# Altium footprint library Common.PcbLib: 7 footprints
Each footprint in its own frame and in the unit in brackets; x right, y up, seen from the top. Pads: shape width x height; smd on the part's side, far side on the other; paste and mask are expansions set on the pad; w line width, h text height; cw(c..) or ccw(c..) is an arc to the next point about the centre after c.
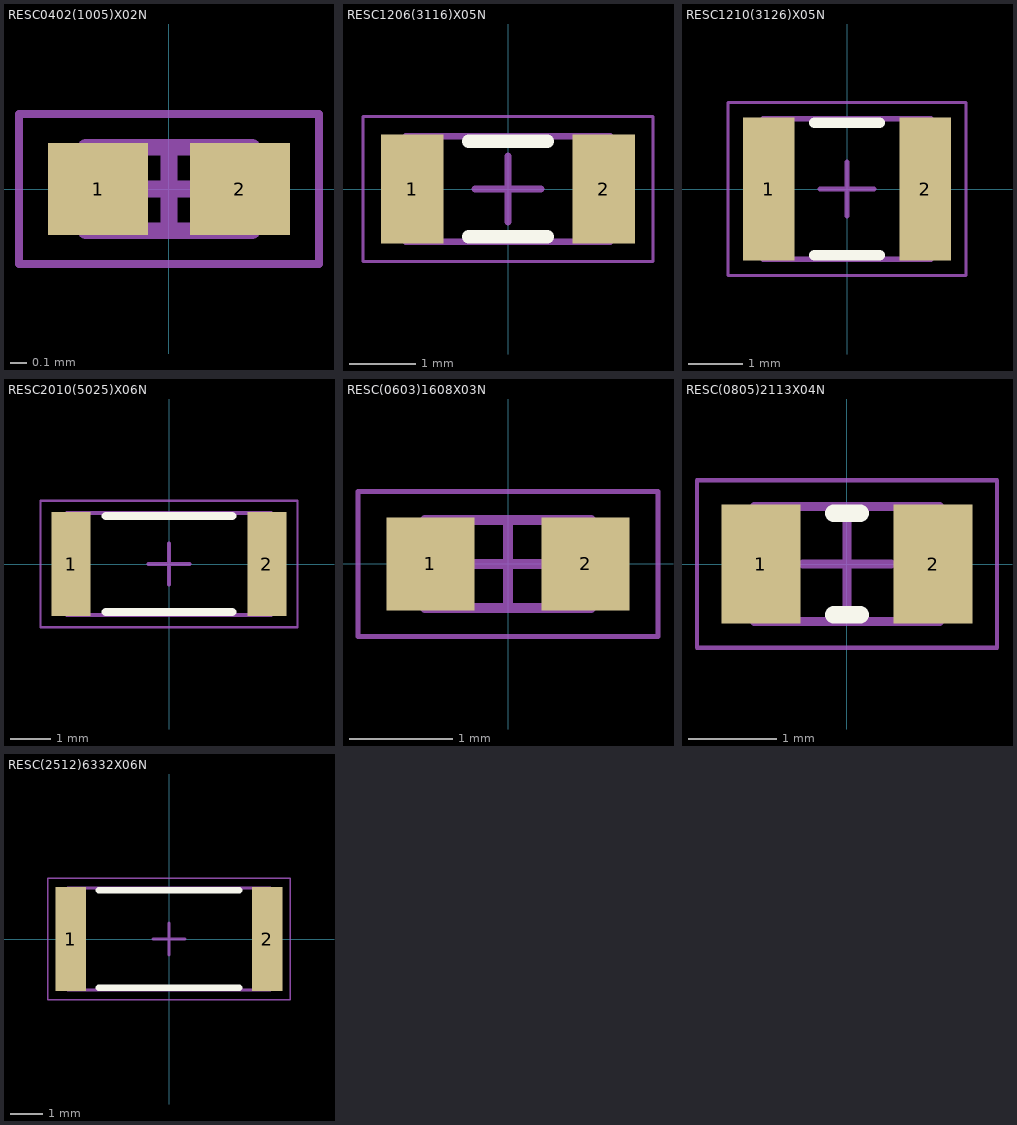
[diagram p0: the footprints below, top view; thin cyan lines are the x and y axes]

## RESC0402(1005)X02N [mm] "Chip Resistor, 2-Leads, Body 1,00x0,50mm, IPC Medium Density"
height 0.2
pads (2):
  rect 0.6x0.55 smd: 1(-0.425,0) 2(0.425,0)
Mechanical 13:
  lines w0.1: -0.5,-0.25 0.5,-0.25 0.5,0.25 -0.5,0.25 -0.5,-0.25
Mechanical 15:
  lines w0.05: -0.9,-0.45 0.9,-0.45 0.9,0.45 -0.9,0.45 -0.9,-0.45
  lines w0.1: -0.25,0 0.25,0 ; 0,-0.25 0,0.25
3D body: height 0.2, standoff 0, extent 0.15,-0.25 0.5,0.25
3D body: height 0.2, standoff 0, extent -0.5,-0.25 -0.15,0.25
3D body: height 0.2, standoff 0, extent -0.15,-0.25 0.15,0.25

## RESC1206(3116)X05N [mm] "Chip Resistor, 2-Leads, Body 3,10x1,60mm, IPC Medium Density"
height 0.5
pads (2):
  rect 0.95x1.65 smd: 1(-1.45,0) 2(1.45,0)
Top Overlay:
  lines w0.2: -0.6,-0.725 0.6,-0.725 ; -0.6,0.725 0.6,0.725
Mechanical 13:
  lines w0.1: -1.55,-0.8 1.55,-0.8 1.55,0.8 -1.55,0.8 -1.55,-0.8
Mechanical 15:
  lines w0.05: -2.2,-1.1 2.2,-1.1 2.2,1.1 -2.2,1.1 -2.2,-1.1
  lines w0.1: -0.5,0 0.5,0 ; 0,-0.5 0,0.5
3D body: height 0.5, standoff 0, extent 1,-0.8 1.55,0.8
3D body: height 0.5, standoff 0, extent -1.55,-0.8 -1,0.8
3D body: height 0.5, standoff 0, extent -1,-0.8 1,0.8

## RESC1210(3126)X05N [mm] "Chip Resistor, 2-Leads, Body 3,10x2,60mm, IPC Medium Density"
height 0.5
pads (2):
  rect 0.95x2.65 smd: 1(-1.45,0) 2(1.45,0)
Top Overlay:
  lines w0.2: -0.6,-1.225 0.6,-1.225 ; -0.6,1.225 0.6,1.225
Mechanical 13:
  lines w0.1: -1.55,-1.3 -1.55,1.3 1.55,1.3 1.55,-1.3 -1.55,-1.3
Mechanical 15:
  lines w0.05: -2.2,-1.6 -2.2,1.6 2.2,1.6 2.2,-1.6 -2.2,-1.6
  lines w0.1: -0.5,0 0.5,0 ; 0,-0.5 0,0.5
3D body: height 0.5, standoff 0, extent -1,-1.3 1,1.3
3D body: height 0.5, standoff 0, extent -1.55,-1.3 -1,1.3
3D body: height 0.5, standoff 0, extent 1,-1.3 1.55,1.3

## RESC2010(5025)X06N [mm] "Chip Resistor, 2-Leads, Body 5,00x2,50mm, IPC Medium Density"
height 0.6
pads (2):
  rect 0.95x2.55 smd: 1(-2.4,0) 2(2.4,0)
Top Overlay:
  lines w0.2: -1.55,-1.175 1.55,-1.175 ; -1.55,1.175 1.55,1.175
Mechanical 13:
  lines w0.1: -2.5,-1.25 2.5,-1.25 2.5,1.25 -2.5,1.25 -2.5,-1.25
Mechanical 15:
  lines w0.05: -3.15,-1.55 3.15,-1.55 3.15,1.55 -3.15,1.55 -3.15,-1.55
  lines w0.1: -0.5,0 0.5,0 ; 0,-0.5 0,0.5
3D body: height 0.6, standoff 0, extent 1.95,-1.25 2.5,1.25
3D body: height 0.6, standoff 0, extent -2.5,-1.25 -1.95,1.25
3D body: height 0.6, standoff 0, extent -1.95,-1.25 1.95,1.25

## RESC(0603)1608X03N [mm] "Chip Resistor, 2-Leads, Body 1,60x0,85mm, IPC Medium Density"
height 0.3
pads (2):
  rect 0.85x0.9 smd: 1(-0.75,0) 2(0.75,0)
Mechanical 13:
  lines w0.1: -0.8,-0.425 0.8,-0.425 0.8,0.425 -0.8,0.425 -0.8,-0.425
Mechanical 15:
  lines w0.05: -1.45,-0.7 1.45,-0.7 1.45,0.7 -1.45,0.7 -1.45,-0.7
  lines w0.1: -0.425,0 0.425,0 ; 0,-0.425 0,0.425
3D body: height 0.3, standoff 0, extent 0.35,-0.425 0.8,0.425
3D body: height 0.3, standoff 0, extent -0.8,-0.425 -0.35,0.425
3D body: height 0.3, standoff 0, extent -0.35,-0.425 0.35,0.425

## RESC(0805)2113X04N [mm] "Chip Resistor, 2-Leads, Body 2,10x1,30mm, IPC Medium Density"
height 0.4
pads (2):
  rect 0.9x1.35 smd: 1(-0.975,0) 2(0.975,0)
Top Overlay:
  lines w0.2: -0.15,-0.575 0.15,-0.575 ; -0.15,0.575 0.15,0.575
Mechanical 13:
  lines w0.1: -1.05,-0.65 -1.05,0.65 1.05,0.65 1.05,-0.65 -1.05,-0.65
Mechanical 15:
  lines w0.05: -1.7,-0.95 -1.7,0.95 1.7,0.95 1.7,-0.95 -1.7,-0.95
  lines w0.1: -0.5,0 0.5,0 ; 0,-0.5 0,0.5
3D body: height 0.4, standoff 0, extent -0.55,-0.65 0.55,0.65
3D body: height 0.4, standoff 0, extent -1.05,-0.65 -0.55,0.65
3D body: height 0.4, standoff 0, extent 0.55,-0.65 1.05,0.65

## RESC(2512)6332X06N [mm] "Chip Resistor, 2-Leads, Body 6,35x3,20mm, IPC Medium Density"
height 0.6
pads (2):
  rect 0.95x3.25 smd: 1(-3.075,0) 2(3.075,0)
Top Overlay:
  lines w0.2: -2.2,-1.525 2.2,-1.525 ; -2.2,1.525 2.2,1.525
Mechanical 13:
  lines w0.1: -3.175,-1.6 3.175,-1.6 3.175,1.6 -3.175,1.6 -3.175,-1.6
Mechanical 15:
  lines w0.05: -3.8,-1.9 3.8,-1.9 3.8,1.9 -3.8,1.9 -3.8,-1.9
  lines w0.1: -0.5,0 0.5,0 ; 0,-0.5 0,0.5
3D body: height 0.6, standoff 0, extent 2.625,-1.6 3.175,1.6
3D body: height 0.6, standoff 0, extent -3.175,-1.6 -2.625,1.6
3D body: height 0.6, standoff 0, extent -2.625,-1.6 2.625,1.6